# EAGLE library part SE2433T-R (library RF Amplifier)
IC RF AMP ISM 2.4GHZ 12QFN Manufacturer's datasheet <https://www.skyworksinc.com/-/media/SkyWorks/Documents/Products/601-700/SE2433T_202411F.pdf>
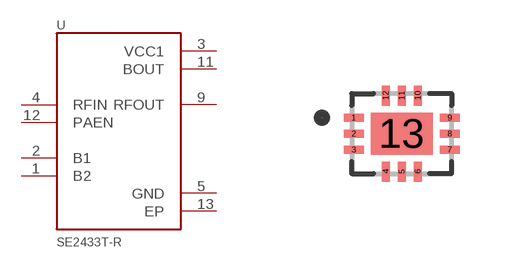
[diagram p3: symbol with the pads of SE2433T-R; footprint SE2433T-R]

Designator prefix U

## SE2433T-R (CREATED_BY: PCBLayout.com; DIGIKEY_PN: 863-1770-2-ND; MANUFACTURER: Skyworks Solutions Inc.; MPN: SE2433T-R; PACKAGE: 12-UFQFN)  [SE2433T-R]
1  B2
2  B1
3  VCC1  pwr
4  RFIN  in
5  GND  pwr
9  RFOUT  out
11  BOUT  out
12  PAEN  in
13  EP  pwr

## Footprint SE2433T-R (pad centres in mm)
smd 0.5 x 0.2: 1 -1.2,0.4; 2 -1.2,0; 3 -1.2,-0.4; 7 1.2,-0.4; 8 1.2,0; 9 1.2,0.4
smd 0.2 x 0.5: 4 -0.4,-0.95; 5 0,-0.95; 6 0.4,-0.95; 10 0.4,0.95; 11 0,0.95; 12 -0.4,0.95
smd 1.55 x 1.05: 13 0,0